# Altium footprint library STM32.PcbLib: 15 footprints
Each footprint in its own frame and in the unit in brackets; x right, y up, seen from the top. Pads: shape width x height; smd on the part's side, far side on the other; paste and mask are expansions set on the pad; w line width, h text height; cw(c..) or ccw(c..) is an arc to the next point about the centre after c.
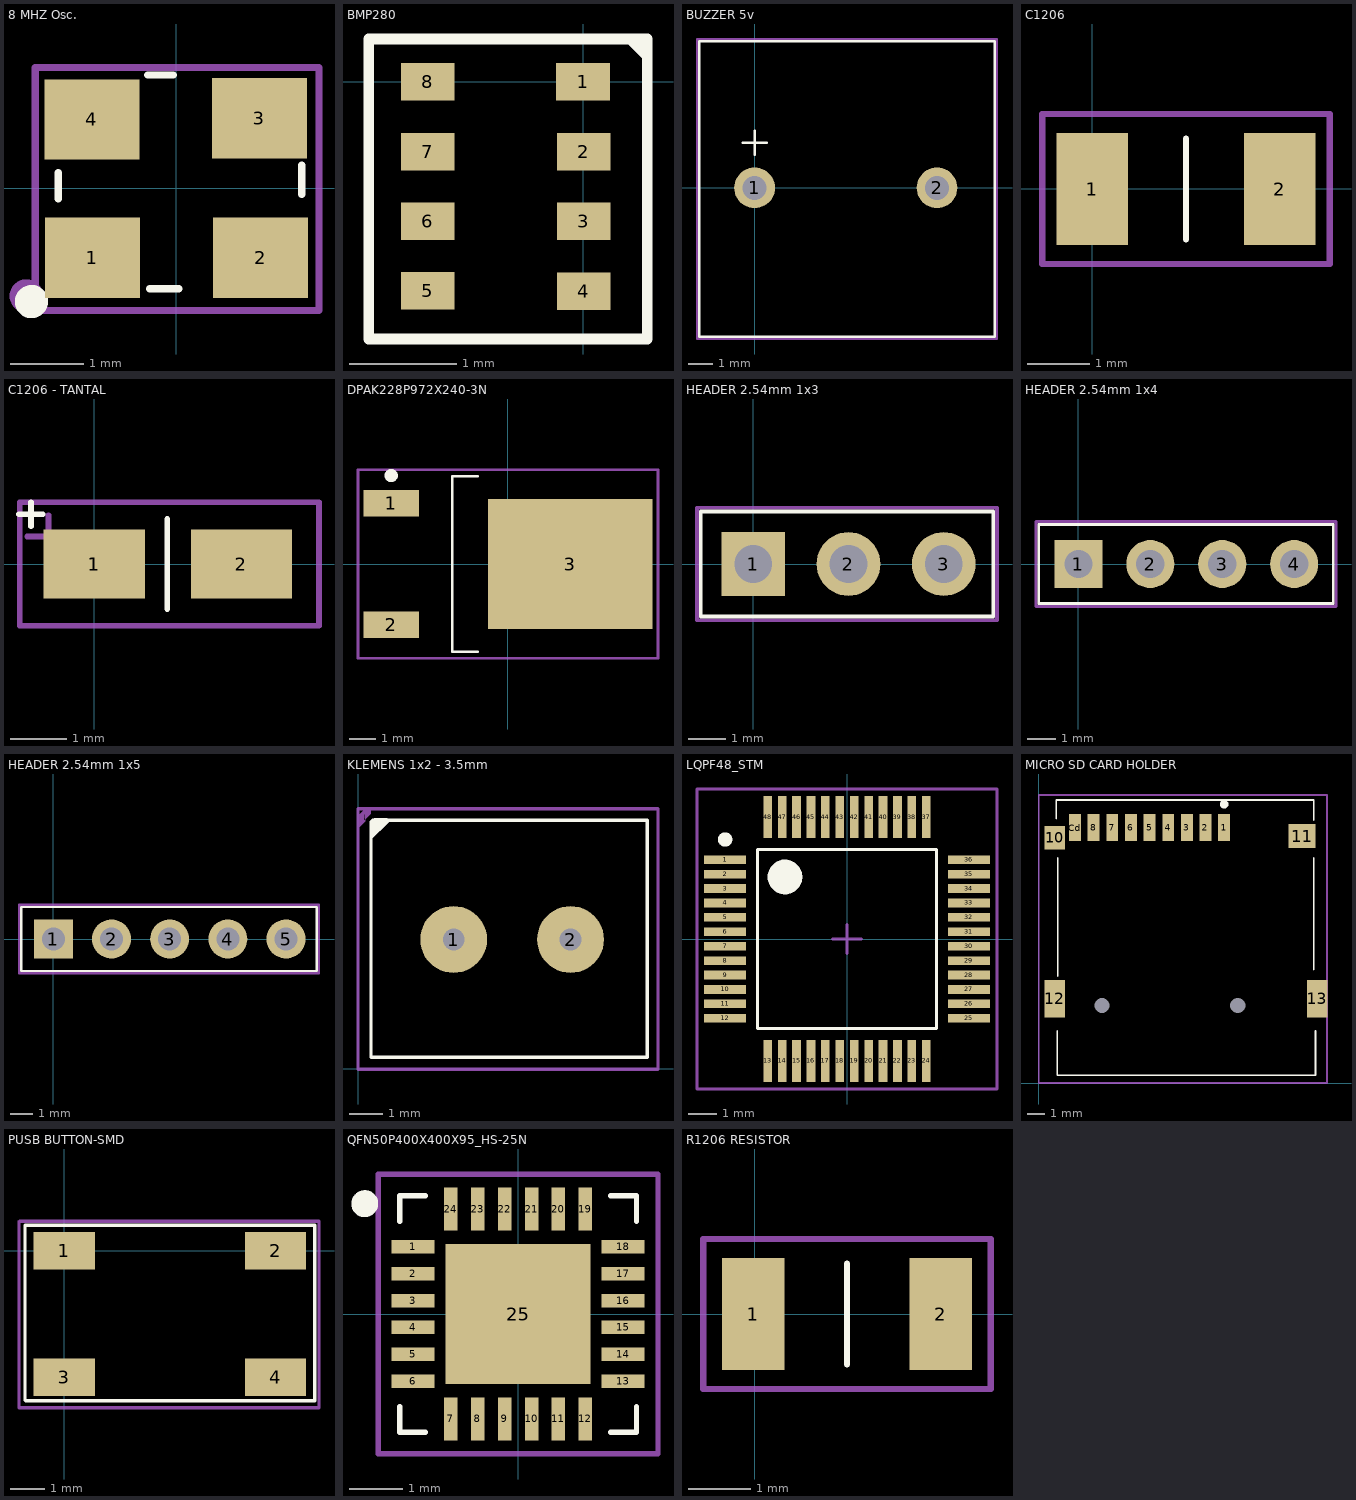
[diagram p0: the footprints below, top view; thin cyan lines are the x and y axes]

## 8 MHZ Osc. [mm]
pads (4):
  rect 1.3x1.1 smd mask+0.05: 1(-1.148,-0.954) 2(1.152,-0.954) 3(1.137,0.954) 4(-1.152,0.937)
Top Overlay:
  circle w0.254: c-1.979,-1.552 r0.1
  lines w0.1: -1.612,-0.146 -1.612,0.208 ; -0.391,1.546 -0.037,1.546 ; -0.365,-1.375 0.035,-1.375 ; 1.718,-0.088 1.718,0.312
Mechanical 3:
  circle w0.254: c-2.05,-1.475 r0.1
  lines w0.1: -1.928,-1.675 -1.928,1.649 1.951,1.649 1.951,-1.675 -1.928,-1.675
3D body "ASE3.STEP": height 1.22, standoff -0.03, extent -1.6,-1.25 1.6,1.25

## BMP280 [mm]
pads (8):
  rect 0.5x0.35 smd mask+0.05: 1(0,0) 2(0.005,-0.652) 3(0.005,-1.302) 4(0.005,-1.952) 5(-1.45,-1.95) 6(-1.45,-1.3) 7(-1.45,-0.65) 8(-1.45,0)
Top Overlay:
  region: 0.6,0.4 0.375,0.4 0.6,0.175
  lines w0.1: -2,-2.4 0.6,-2.4 0.6,0.4 -1.9,0.4 -2,0.4 -2,-2.4
3D body "User Library-BMP280.step": height 0.95, standoff -0.01, extent -1.725,-2.225 0.275,0.275
3D body: height 0.25, standoff 0, extent -0.6,-0.6 -0.6,-0.6
3D body: height 0.25, standoff 0, extent 0.5,0.3 0.5,0.3

## BUZZER 5v [mm]
pads (2):
  round 1.7 hole 1: 1(0,0) 2(7.6,0)
Top Overlay:
  lines w0.1: -0.5,1.875 0.5,1.875 ; 0,1.375 0,2.375 ; -2.3,-6.2 10,-6.2 10,6.1 -2.3,6.1 -2.3,-6.2
Mechanical 3:
  lines w0.1: -2.4,-6.3 10.1,-6.3 10.1,6.2 -2.4,6.2 -2.4,-6.3
3D body "User Library-Buzzer CEM-1205C.step": height 9.5, standoff -3.5, extent -2.175,-6.025 9.825,5.975
3D body: height 0.95, standoff -0.01, extent 0,0 0,0

## C1206 [mm]
pads (2):
  rect 1.15x1.8 smd mask+0.05: 1(0,0) 2(3,0)
Top Overlay:
  lines w0.1: 1.5,-0.805 1.5,0.805
Mechanical 3:
  lines w0.1: -0.8,-1.2 -0.8,1.2 3.8,1.2 3.8,-1.2 -0.8,-1.2
3D body "1206CAP.step": height 1, standoff 0, extent -0.1,-0.8 3.1,0.8

## C1206 - TANTAL [mm]
pads (3):
  rect 1.8x1.23 smd mask+0.05: 1(0,0) 1(0,0) 2(2.62,0)
Top Overlay:
  lines w0.1: -1.338,0.888 -0.913,0.888 ; -1.125,0.675 -1.125,1.1 ; 1.3,-0.8 1.3,0.8
Mechanical 3:
  lines w0.1: -1.194,0.489 -0.432,0.489 ; -0.813,0.108 -0.813,0.87 ; -1.325,-1.1 -1.325,1.1 4,1.1 4,-1.1 -1.325,-1.1
3D body "User Library-CaseA_3216-18.step": height 1.62, standoff 0.02, extent -0.3,-0.8 2.9,0.8

## DPAK228P972X240-3N [mm] "D-PAK, 3-Pads, Body 6.20x6.66mm (max), IPC Medium Density"
height 2.4
pads (3):
  rect 2.1x1 smd mask+0.05: 1(-4.4,2.28) 2(-4.4,-2.28)
  rect 6.2x4.9 smd mask+0.05: 3(2.35,0)
Top Overlay:
  circle w0.25: c-4.4,3.33 r0.125
  lines w0.1: -1.15,-3.3 -2.1,-3.3 -2.1,3.3 -1.15,3.3
Mechanical 3:
  lines w0.1: -0.5,0 0.5,0 ; 0,-0.5 0,0.5 ; -5.65,-3.55 -5.65,3.55 5.65,3.55 5.65,-3.55 -5.65,-3.55
3D body "DPAK228P972X240-3N.step": height 3.3, standoff 0, extent -4.225,-3.3 5.5,3.3

## HEADER 2.54mm 1x3 [mm]
pads (3):
  rect 1.7x1.7 hole 1: 1(0,0)
  round 1.7 hole 1: 2(2.54,0) 3(5.08,0)
Top Overlay:
  lines w0.1: -1.4,-1.4 -1.4,1.4 6.4,1.4 6.4,-1.4 -1.4,-1.4
Mechanical 3:
  lines w0.1: -1.5,-1.5 6.5,-1.5 6.5,1.5 -1.3,1.5 -1.5,1.5 -1.5,-1.5
3D body "User Library-ZL262-3SG.step": height 8.6, standoff -2.95, extent -1.3,-1.25 6.32,1.25

## HEADER 2.54mm 1x4 [mm]
pads (4):
  rect 1.7x1.7 hole 1: 1(0,0)
  round 1.7 hole 1: 2(2.54,0) 3(5.08,0) 4(7.62,0)
Top Overlay:
  lines w0.1: -1.4,-1.4 -1.4,1.4 9,1.4 9,-1.4 -1.4,-1.4
Mechanical 3:
  lines w0.1: -1.5,-1.5 9.1,-1.5 9.1,1.5 -1.5,1.5 -1.5,-1.5
3D body "User Library-ZL262-4SG.step": height 8.6, standoff -2.95, extent -1.296,-1.233 8.864,1.267

## HEADER 2.54mm 1x5 [mm]
pads (5):
  rect 1.7x1.7 hole 1: 1(0,0)
  round 1.7 hole 1: 2(2.54,0) 3(5.08,0) 4(7.62,0) 5(10.16,0)
Top Overlay:
  lines w0.1: -1.4,-1.4 11.5,-1.4 11.5,1.4 -1.4,1.4 -1.4,-1.4
Mechanical 3:
  lines w0.1: -1.5,-1.5 11.6,-1.5 11.6,1.5 -1.5,1.5 -1.5,-1.5
3D body "User Library-ZL262-5SG.step": height 8.6, standoff -2.95, extent -1.3,-1.25 11.4,1.25

## KLEMENS 1x2 - 3.5mm [mm]
pads (2):
  round 2 hole 0.65: 1(2.85,3.875) 2(6.35,3.875)
Top Overlay:
  region: 0.917,7.407 0.344,6.834 0.344,7.369 0.478,7.502 0.857,7.502
  lines w0.1: 0.375,7.4 0.375,0.35 8.65,0.35 8.65,7.45 0.425,7.45
Mechanical 3:
  region: 0.202,7.785 -0.014,7.569 -0.014,7.786 -0.012,7.785 0.202,7.785 0.202,7.421 -0.012,7.207 -0.012,7.785 0.202,7.785 0.209,7.778 0.368,7.778 0.368,7.634 0.165,7.432
  lines w0.1: -0.012,0.003 -0.012,7.785 0.202,7.785 8.967,7.785 8.967,-0.006 -0.003,-0.006 -0.012,0.003
3D body "terminal_blocks_a-tb350-te02.stp": height 8.9, standoff -3.29, extent 0.55,0.475 8.544,7.475

## LQPF48_STM [mm] "TSQFP, 48-Leads, Body 7.00x7.00mm, Pitch 0.50mm, IPC Medium Density"
height 1.6
pads (48):
  rect 1.45x0.3 smd mask+0.05: 1(-4.225,2.75) 2(-4.225,2.25) 3(-4.225,1.75) 4(-4.225,1.25) 5(-4.225,0.75) 6(-4.225,0.25) 7(-4.225,-0.25) 8(-4.225,-0.75) 9(-4.225,-1.25) 10(-4.225,-1.75) 11(-4.225,-2.25) 12(-4.225,-2.75) 25(4.225,-2.75) 26(4.225,-2.25) 27(4.225,-1.75) 28(4.225,-1.25) 29(4.225,-0.75) 30(4.225,-0.25) 31(4.225,0.25) 32(4.225,0.75) 33(4.225,1.25) 34(4.225,1.75) 35(4.225,2.25) 36(4.225,2.75)
  rect 0.3x1.45 smd mask+0.05: 13(-2.75,-4.225) 14(-2.25,-4.225) 15(-1.75,-4.225) 16(-1.25,-4.225) 17(-0.75,-4.225) 18(-0.25,-4.225) 19(0.25,-4.225) 20(0.75,-4.225) 21(1.25,-4.225) 22(1.75,-4.225) 23(2.25,-4.225) 24(2.75,-4.225) 37(2.75,4.225) 38(2.25,4.225) 39(1.75,4.225) 40(1.25,4.225) 41(0.75,4.225) 42(0.25,4.225) 43(-0.25,4.225) 44(-0.75,4.225) 45(-1.25,4.225) 46(-1.75,4.225) 47(-2.25,4.225) 48(-2.75,4.225)
Top Overlay:
  circle w0.25: c-4.225,3.45 r0.125
  circle w0.6: c-2.15,2.15 r0.3
  lines w0.1: -3.1,-3.1 -3.1,3.1 3.1,3.1 3.1,-3.1 -3.1,-3.1
Mechanical 3:
  lines w0.1: -0.5,0 0.5,0 ; 0,-0.5 0,0.5 ; -5.2,-5.2 -5.2,5.2 5.2,5.2 5.2,-5.2 -5.2,-5.2
3D body "LQPF48_STM.step": height 1.6, standoff 0, extent -4.5,-4.525 4.5,4.475

## MICRO SD CARD HOLDER [mm]
pads (15):
  rect 0.7x1.6 smd paste+0 mask+0: 1(10.934,15.075) 2(9.834,15.075) 3(8.734,15.075) 4(7.634,15.075) 5(6.534,15.075) 6(5.434,15.075) 7(4.334,15.075) 8(3.234,15.075) Cd(2.134,15.075)
  rect 1.2x1.4 smd paste+0 mask+0: 10(0.934,14.475)
  rect 1.6x1.4 smd paste+0 mask+0: 11(15.534,14.575)
  rect 1.2x2.2 smd paste+0 mask+0: 12(0.934,4.975) 13(16.434,4.975)
  round 0 hole 0.9 unplated paste-1000 mask+0: ""(3.734,4.575) ""(11.734,4.575)
Top Overlay:
  circle w0.25: c10.934,16.45 r0.125
  lines w0.1: 1.025,15.6 1.025,16.7 16.225,16.7 16.225,15.5 ; 1.093,3.075 1.093,0.453 16.325,0.453 16.325,3.075 ; 1.125,6.3 1.125,13.3 ; 16.225,6.7 16.225,13.3
Mechanical 3:
  lines w0.1: 0,0 0,17 0.5,17 16.75,17 17,17 17,0 0,0
3D body "User Library-MEM2055-00-190-01-A_revG.step": height 1.85, standoff -0.6, extent 0.683,0.58 16.683,15.83

## PUSB BUTTON-SMD [mm]
pads (4):
  rect 1.8x1.1 smd mask+0.05: 1(0,0) 2(6.2,0) 3(0,-3.7) 4(6.2,-3.7)
Top Overlay:
  lines w0.1: -1.15,-4.375 -1.15,0.75 7.35,0.75 7.35,-4.4 -1.125,-4.4
Mechanical 3:
  lines w0.1: -1.325,-4.6 -1.325,0.85 -1.3,0.875 7.475,0.875 7.475,-4.6 -1.325,-4.6
3D body "User Library-4x4_SMD_Switch.step": height 1.5, standoff 0, extent -0.2,-4.5 6.2,0.7

## QFN50P400X400X95_HS-25N [mm] "QFN, 24-Leads, Body 4.00x4.00mm, Pitch 0.50mm, Thermal Pad 2.70x2.60mm, IPC Medium Density"
height 0.95
pads (25):
  rect 0.8x0.25 smd paste+0 mask+0.05: 1(-1.95,1.25)
  rect 0.8x0.25 smd mask+0.05: 2(-1.95,0.75) 3(-1.95,0.25) 4(-1.95,-0.25) 5(-1.95,-0.75) 6(-1.95,-1.25) 13(1.95,-1.25) 14(1.95,-0.75) 15(1.95,-0.25) 16(1.95,0.25) 17(1.95,0.75) 18(1.95,1.25)
  rect 0.25x0.8 smd mask+0.05: 7(-1.25,-1.95) 8(-0.75,-1.95) 9(-0.25,-1.95) 10(0.25,-1.95) 11(0.75,-1.95) 12(1.25,-1.95) 19(1.25,1.95) 20(0.75,1.95) 21(0.25,1.95) 22(-0.25,1.95) 23(-0.75,1.95) 24(-1.25,1.95)
  rect 2.7x2.6 smd mask+0.05: 25(0,0)
Top Overlay:
  circle w0.25: c-2.85,2.05 r0.125
  lines w0.1: -2.2,-1.725 -2.2,-2.2 -1.725,-2.2 ; -2.2,1.725 -2.2,2.2 -1.725,2.2 ; 1.725,-2.2 2.2,-2.2 2.2,-1.725 ; 1.725,2.2 2.2,2.2 2.2,1.725
Mechanical 3:
  lines w0.1: -0.5,0 0.5,0 ; 0,-0.5 0,0.5 ; -2.6,-2.6 -2.6,2.6 2.6,2.6 2.6,-2.6 -2.6,-2.6
3D body "QFN50P400X400X95_HS-25N.step": height 0.95, standoff 0, extent -2.06,-2.06 2.06,2.06

## R1206 RESISTOR [mm]
pads (2):
  rect 1x1.8 smd mask+0.05: 1(-0.025,0) 2(2.975,0)
Top Overlay:
  lines w0.1: 1.475,-0.805 1.475,0.805
Mechanical 3:
  lines w0.1: -0.825,-1.2 -0.825,1.2 3.775,1.2 3.775,-1.2 -0.825,-1.2
3D body "1206RES.step": height 0.55, standoff 0, extent -0.125,-0.805 3.075,0.805